# Altium schematic symbol library FPGA_Lattice.SchLib: 24 symbols (part 3 of 3)
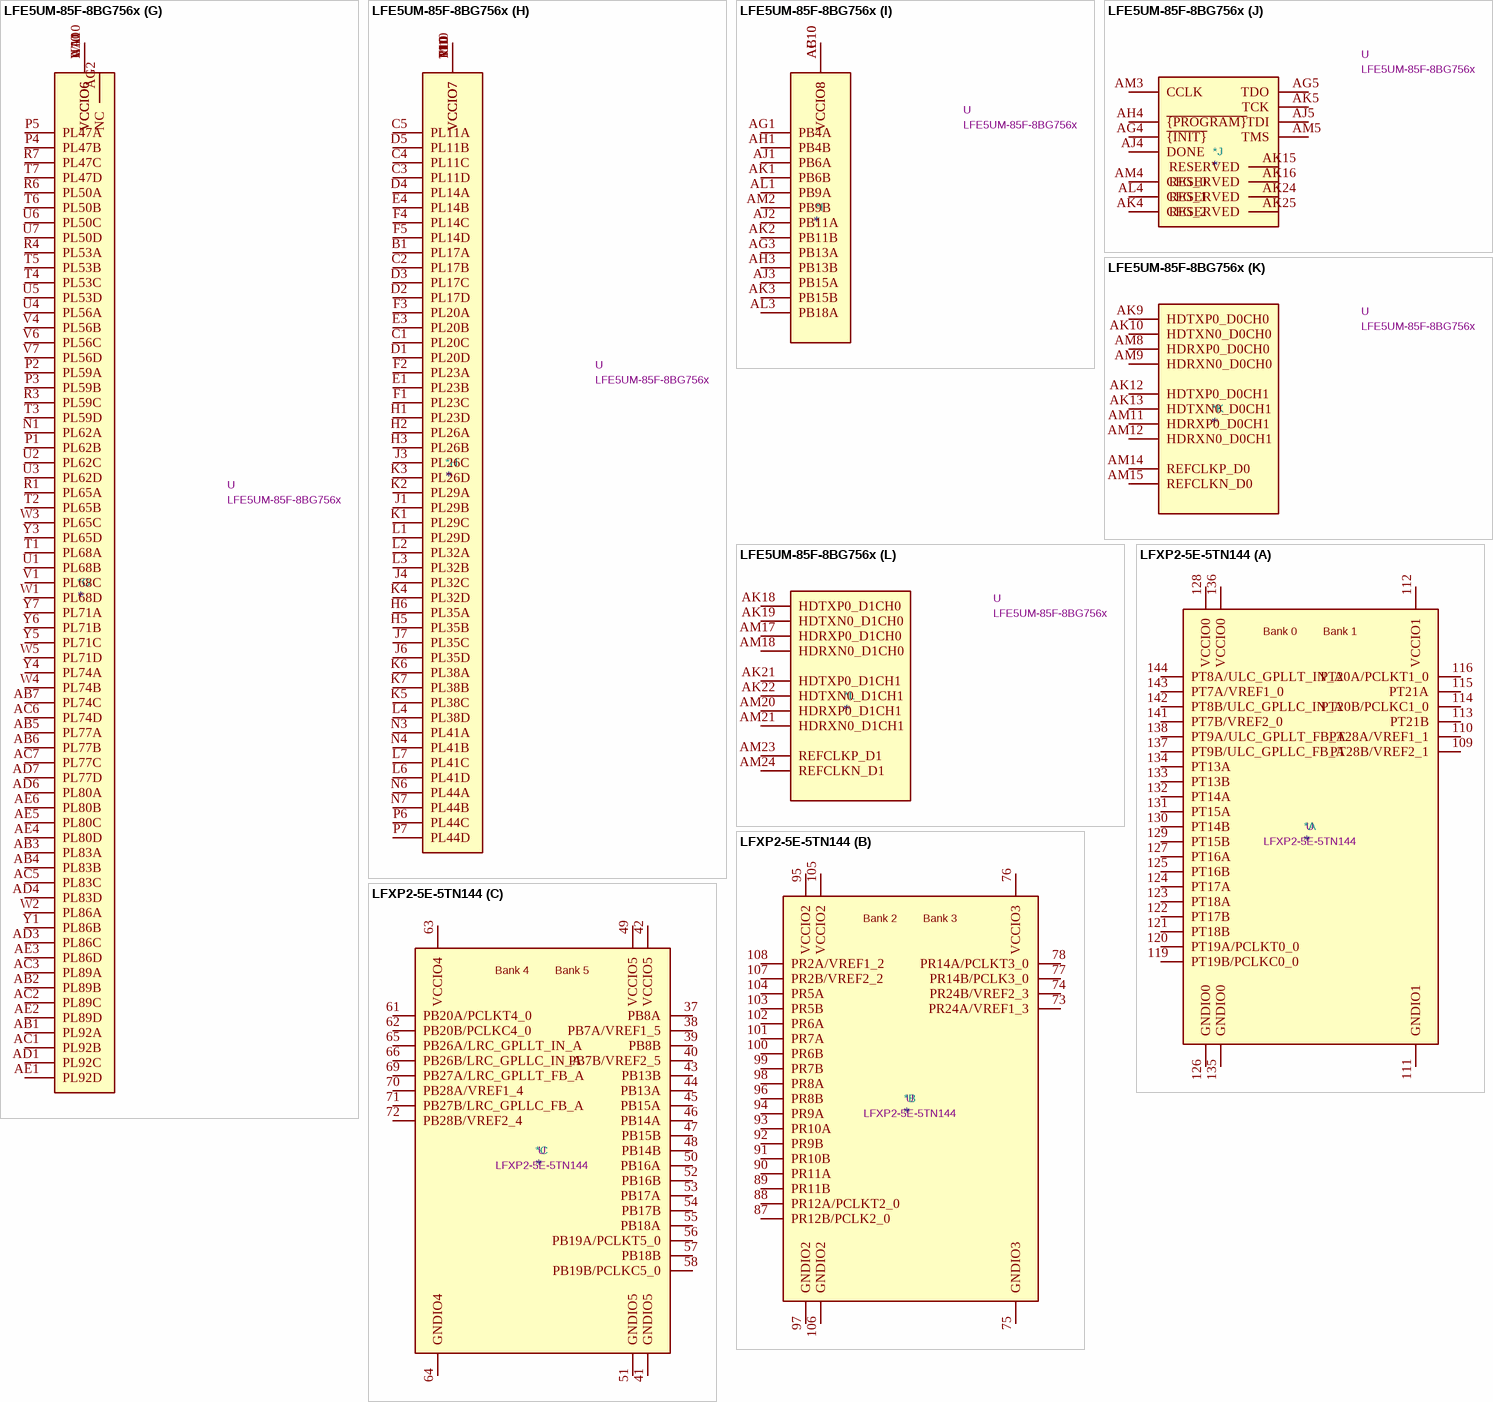
[diagram p26: symbols LFE5UM-85F-8BG756x to LFXP2-5E-5TN144]

## LFE5UM-85F-8BG756x
designator *  value LFE5UM-85F-8BG756x  Reference: U
ECP5 FPGA, 84K LUTs, 1.2V, 3.2Gbps SERDES, BGA-756; ki_keywords: FPGA programmable logic; ki_fp_filters: Lattice*caBGA*27x27mm*Layout32x32*P0.8mm*; Footprint: Package_BGA:Lattice_caBGA-756_27x27mm_Layout32x32_P0.8mm; Datasheet: https://www.latticesemi.com/view_document?document_id=50461; Description_: ECP5 FPGA, 84K LUTs, 1.2V, 3.2Gbps SERDES, BGA-756
part A pins: AA11 GND, AA12 VCC, AA13 VCC, AA14 VCC, AA15 VCC, AA16 VCC, AA17 VCC, AA18 VCC, AA19 VCC, AA20 VCC, AA21 VCC, AA22 GND, AB11 GND, AB12 GND, AB13 GND, AB14 GND, AB15 GND, AB16 GND, AB17 GND, AB18 GND, AB19 GND, AB20 GND, AB21 GND, AB22 GND, AC11 VCCAUX, AC12 GND, AC13 VCCHTX0_D0CH0, AC14 VCCHRX0_D0CH0, AC15 VCCHRX1_D0CH1, AC16 VCCHTX1_D0CH1, AC17 VCCHTX0_D1CH0, AC18 VCCHRX0_D1CH0, AC19 VCCHRX1_D1CH1, AC20 VCCHTX1_D1CH1, AC21 GND, AC22 VCCAUX, AC29 NC, AD2 GND, AD5 GND, AD28 GND, AD31 GND, AE7 NC, AE26 NC, AF11 GND, AF12 GND, AF14 GND, AF15 GND, AF16 GND, AF17 GND, AF19 GND, AF20 GND, AF22 VCCA1, AF23 GND, AG9 VCCA0, AG11 GND, AG12 VCCA0, AG14 GND, AG15 GND, AG16 GND, AG17 GND, AG19 VCCA1, AG20 GND, AG22 VCCA1, AG23 GND, AG24 NC, AG31 NC, AH2 GND, AH5 GND, AH7 GND, AH8 GND, AH9 VCCA0, AH11 GND, AH12 VCCA0, AH14 GND, AH15 GND, AH16 GND, AH17 GND, AH19 VCCA1, AH20 GND, AH22 VCCA1, AH23 GND, AH24 GND, AH25 GND, AH26 GND, AH29 GND, AH31 GND, AJ7 GND, AJ8 GND, AJ9 VCCA0, AJ10 VCCA0, AJ11 GND, AJ12 VCCA0, AJ13 VCCA0, AJ14 GND, AJ15 VCCAUXA0, AJ16 VCCAUXA0, AJ17 GND, AJ18 VCCA1, AJ19 VCCA1, AJ20 GND, AJ21 VCCA1, AJ22 VCCA1, AJ23 GND, AJ24 VCCAUXA1, AJ25 VCCAUXA1, AJ26 GND, AK7 GND, AK8 GND, AK11 GND, AK14 GND, AK17 GND, AK20 GND, AK23 GND, AK26 GND, AL2 GND, AL5 GND, AL7 GND, AL8 GND, AL9 GND, AL11 GND, AL12 GND, AL14 GND, AL15 GND, AL17 GND, AL18 GND, AL20 GND, AL21 GND, AL23 GND, AL24 GND, AL26 GND, AL29 GND, AL31 GND, AM7 GND, AM26 GND, B2 GND, B5 GND, B9 GND, B13 GND, B15 GND, B18 GND, B20 GND, B24 GND, B28 GND, B31 GND, E2 GND, E5 GND, E7 NC, E9 GND, E13 GND, E15 GND, E18 GND, E20 GND, E24 GND, E26 NC, E28 GND, E31 GND, G9 NC, G10 NC, G11 NC, G14 NC, G15 NC, G16 NC, G17 NC, G18 NC, G19 NC, G22 NC, G23 NC, G24 NC, H29 NC, J2 GND, J5 GND, J28 GND, J31 GND, K10 GND, K11 GND, K13 VCCAUX, K20 VCCAUX, K22 GND, K23 GND, L10 GND, L11 GND, L12 GND, L13 GND, L14 GND, L15 GND, L16 GND, L17 GND, L18 GND, L19 GND, L20 GND, L21 GND, L22 GND, L23 GND, L28 NC, M11 GND, M12 VCC, M13 VCC, M14 VCC, M15 VCC, M16 VCC, M17 VCC, M18 VCC, M19 VCC, M20 VCC, M21 VCC, M22 GND, N2 GND, N5 GND, N10 VCCAUX, N11 GND, N12 VCC, N13 GND, N14 GND, N15 GND, N16 GND, N17 GND, N18 GND, N19 GND, N20 GND, N21 VCC, N22 GND, N23 VCCAUX, N28 GND, N31 GND, P11 GND, P12 VCC, P13 GND, P14 GND, P15 GND, P16 GND, P17 GND, P18 GND, P19 GND, P20 GND, P21 VCC, P22 GND, R2 GND, R5 GND, R11 GND, R12 VCC, R13 GND, R14 GND, R15 GND, R16 GND, R17 GND, R18 GND, R19 GND, R20 GND, R21 VCC, R22 GND, R28 GND, R31 GND, T11 GND, T12 VCC, T13 GND, T14 GND, T15 GND, T16 GND, T17 GND, T18 GND, T19 GND, T20 GND, T21 VCC, T22 GND, U11 GND, U12 VCC, U13 GND, U14 GND, U15 GND, U16 GND, U17 GND, U18 GND, U19 GND, U20 GND, U21 VCC, U22 GND, V2 GND, V5 GND, V11 GND, V12 VCC, V13 GND, V14 GND, V15 GND, V16 GND, V17 GND, V18 GND, V19 GND, V20 GND, V21 VCC, V22 GND, V28 GND, V30 NC, V31 GND, W11 GND, W12 VCC, W13 GND, W14 GND, W15 GND, W16 GND, W17 GND, W18 GND, W19 GND, W20 GND, W21 VCC, W22 GND, W27 NC, Y2 GND, Y10 VCCAUX, Y11 GND, Y12 VCC, Y13 GND, Y14 GND, Y15 GND, Y16 GND, Y17 GND, Y18 GND, Y19 GND, Y20 GND, Y21 VCC, Y22 GND, Y23 VCCAUX, Y31 GND
part B pins: A2 PT6A, A3 PT6B, A4 PT9A, A5 PT9B, A7 PT13B, A8 PT20B, A9 PT24B, A10 PT31B, A11 PT38B, A13 PT42B, A14 PT49B, A15 PT54B, A16 PT60B, A17 PT63A, B3 PT4A, B4 PT4B, B7 PT13A, B8 PT20A, B10 PT31A, B11 PT38A, B14 PT49A, B16 PT60A, B17 PT63B, C7 PT11B, C8 PT18B, C9 PT24A, C10 PT29B, C11 PT36B, C13 PT42A, C14 PT47B, C15 PT54A, C16 PT58B, C17 PT65A, D7 PT11A, D8 PT18A, D9 PT22B, D10 PT29A, D11 PT36A, D13 PT40B, D14 PT47A, D15 PT51B, D16 PT58A, D17 PT65B, E8 PT15B, E10 PT27B, E11 PT33B, E14 PT45B, E16 PT56B, F8 PT15A, F9 PT22A, F10 PT27A, F11 PT33A, F13 PT40A, F14 PT45A, F15 PT51A, F16 PT56A, K12 VCCIO0, K14 VCCIO0, K15 VCCIO0, K16 VCCIO0, W6 NC
part C pins: A18 PT71A, A19 PT76A, A20 PT83A, A22 PT87A, A23 PT94A, A24 PT101A, A25 PT105A, A26 PT112A, A28 PT116A, A29 PT116B, A30 PT119A, A31 PT119B, B19 PT76B, B22 PT87B, B23 PT94B, B25 PT105B, B26 PT112B, B29 PT121A, B30 PT121B, C18 PT71B, C19 PT78A, C20 PT83B, C22 PT89A, C23 PT96A, C24 PT101B, C25 PT107A, C26 PT114A, D18 PT74A, D19 PT78B, D20 PT85A, D22 PT89B, D23 PT96B, D24 PT103A, D25 PT107B, D26 PT114B, E17 PT69A, E19 PT80A, E22 PT92A, E23 PT98A, E25 PT110A, F17 PT69B, F18 PT74B, F19 PT80B, F20 PT85B, F22 PT92B, F23 PT98B, F24 PT103B, F25 PT110B, K17 VCCIO1, K18 VCCIO1, K19 VCCIO1, K21 VCCIO1, L5 NC
part D pins: B32 PR17A, C28 PR11A, C29 PR11C, C30 PR11D, C31 PR17B, C32 PR20C, D28 PR11B, D29 PR14A, D30 PR17C, D31 PR17D, D32 PR20D, E29 PR14B, E30 PR20B, E32 PR23B, F28 PR14D, F29 PR14C, F30 PR20A, F31 PR23A, F32 PR23C, H4 NC, H27 PR35A, H28 PR35B, H30 PR26B, H31 PR26A, H32 PR23D, J26 PR35C, J27 PR35D, J29 PR32C, J30 PR26C, J32 PR29B, K26 PR38B, K27 PR38A, K28 PR38C, K29 PR32D, K30 PR26D, K31 PR29A, K32 PR29C, L26 PR41C, L27 PR41D, L29 PR38D, L30 PR32B, L31 PR32A, L32 PR29D, M23 VCCIO2, N26 PR44B, N27 PR44A, N29 PR41B, N30 PR41A, P23 VCCIO2, P26 PR44D, P27 PR44C, R23 VCCIO2, T23 VCCIO2
part E pins: AA23 VCCIO3, AB26 PR74C, AB27 PR77B, AB28 PR77A, AB29 PR83B, AB30 PR83A, AB31 PR89B, AB32 PR92A, AC4 NC, AC26 PR77C, AC27 PR74D, AC28 PR83C, AC30 PR89A, AC31 PR89C, AC32 PR92B, AD26 PR77D, AD27 PR80A, AD29 PR83D, AD30 PR86C, AD32 PR92C, AE27 PR80B, AE28 PR80C, AE29 PR80D, AE30 PR86D, AE31 PR89D, AE32 PR92D, N32 PR62A, P28 PR47A, P29 PR47B, P30 PR59B, P31 PR59A, P32 PR62B, R26 PR47C, R27 PR50A, R29 PR53A, R30 PR59C, R32 PR65A, T26 PR47D, T27 PR50B, T28 PR53B, T29 PR53C, T30 PR59D, T31 PR65B, T32 PR68A, U23 VCCIO3, U26 PR50D, U27 PR50C, U28 PR53D, U29 PR56A, U30 PR62D, U31 PR62C, U32 PR68B, V23 VCCIO3, V26 PR56D, V27 PR56C, V29 PR56B, V32 PR68C, W23 VCCIO3, W28 PR71D, W29 PR74B, W30 PR65C, W31 PR86A, W32 PR68D, Y26 PR71A, Y27 PR71B, Y28 PR71C, Y29 PR74A, Y30 PR65D, Y32 PR86B
part F pins: AB23 VCCIO4, AC23 VCCIO4, AG28 PB110A, AG29 PB110B, AG30 PB114B, AG32 PB119B, AH28 PB112B, AH30 PB114A, AH32 PB119A, AJ28 PB112A, AJ29 PB121A, AJ30 PB121B, AJ31 PB105B, AJ32 PB101B, AK28 PB98B, AK29 PB116A, AK30 PB116B, AK31 PB105A, AK32 PB101A, AL28 PB98A, AL30 PB103B, AL32 PB107B, AM28 PB96A, AM29 PB96B, AM30 PB103A, AM31 PB107A, V3 NC
part G pins: AA10 VCCIO6, AB1 PL92A, AB2 PL89B, AB3 PL83A, AB4 PL83B, AB5 PL77A, AB6 PL77B, AB7 PL74C, AC1 PL92B, AC2 PL89C, AC3 PL89A, AC5 PL83C, AC6 PL74D, AC7 PL77C, AD1 PL92C, AD3 PL86C, AD4 PL83D, AD6 PL80A, AD7 PL77D, AE1 PL92D, AE2 PL89D, AE3 PL86D, AE4 PL80D, AE5 PL80C, AE6 PL80B, AG2 NC, N1 PL62A, P1 PL62B, P2 PL59A, P3 PL59B, P4 PL47B, P5 PL47A, R1 PL65A, R3 PL59C, R4 PL53A, R6 PL50A, R7 PL47C, T1 PL68A, T2 PL65B, T3 PL59D, T4 PL53C, T5 PL53B, T6 PL50B, T7 PL47D, U1 PL68B, U2 PL62C, U3 PL62D, U4 PL56A, U5 PL53D, U6 PL50C, U7 PL50D, U10 VCCIO6, V1 PL68C, V4 PL56B, V6 PL56C, V7 PL56D, V10 VCCIO6, W1 PL68D, W2 PL86A, W3 PL65C, W4 PL74B, W5 PL71D, W10 VCCIO6, Y1 PL86B, Y3 PL65D, Y4 PL74A, Y5 PL71C, Y6 PL71B, Y7 PL71A
part H pins: B1 PL17A, C1 PL20C, C2 PL17B, C3 PL11D, C4 PL11C, C5 PL11A, D1 PL20D, D2 PL17D, D3 PL17C, D4 PL14A, D5 PL11B, E1 PL23B, E3 PL20B, E4 PL14B, F1 PL23C, F2 PL23A, F3 PL20A, F4 PL14C, F5 PL14D, H1 PL23D, H2 PL26A, H3 PL26B, H5 PL35B, H6 PL35A, J1 PL29B, J3 PL26C, J4 PL32C, J6 PL35D, J7 PL35C, K1 PL29C, K2 PL29A, K3 PL26D, K4 PL32D, K5 PL38C, K6 PL38A, K7 PL38B, L1 PL29D, L2 PL32A, L3 PL32B, L4 PL38D, L6 PL41D, L7 PL41C, M10 VCCIO7, N3 PL41A, N4 PL41B, N6 PL44A, N7 PL44B, P6 PL44C, P7 PL44D, P10 VCCIO7, R10 VCCIO7, T10 VCCIO7
part I pins: AB10 VCCIO8, AC10 VCCIO8, AG1 PB4A, AG3 PB13A, AH1 PB4B, AH3 PB13B, AJ1 PB6A, AJ2 PB11A, AJ3 PB15A, AK1 PB6B, AK2 PB11B, AK3 PB15B, AL1 PB9A, AL3 PB18A, AM2 PB9B
part J pins: AG4 ~{{INIT}}, AG5 TDO, AH4 ~{{PROGRAM}}, AJ4 DONE, AJ5 TDI, AK4 CFG_2, AK5 TCK, AK15 RESERVED, AK16 RESERVED, AK24 RESERVED, AK25 RESERVED, AL4 CFG_1, AM3 CCLK, AM4 CFG_0, AM5 TMS
part K pins: AK9 HDTXP0_D0CH0, AK10 HDTXN0_D0CH0, AK12 HDTXP0_D0CH1, AK13 HDTXN0_D0CH1, AM8 HDRXP0_D0CH0, AM9 HDRXN0_D0CH0, AM11 HDRXP0_D0CH1, AM12 HDRXN0_D0CH1, AM14 REFCLKP_D0, AM15 REFCLKN_D0
part L pins: AK18 HDTXP0_D1CH0, AK19 HDTXN0_D1CH0, AK21 HDTXP0_D1CH1, AK22 HDTXN0_D1CH1, AM17 HDRXP0_D1CH0, AM18 HDRXN0_D1CH0, AM20 HDRXP0_D1CH1, AM21 HDRXN0_D1CH1, AM23 REFCLKP_D1, AM24 REFCLKN_D1

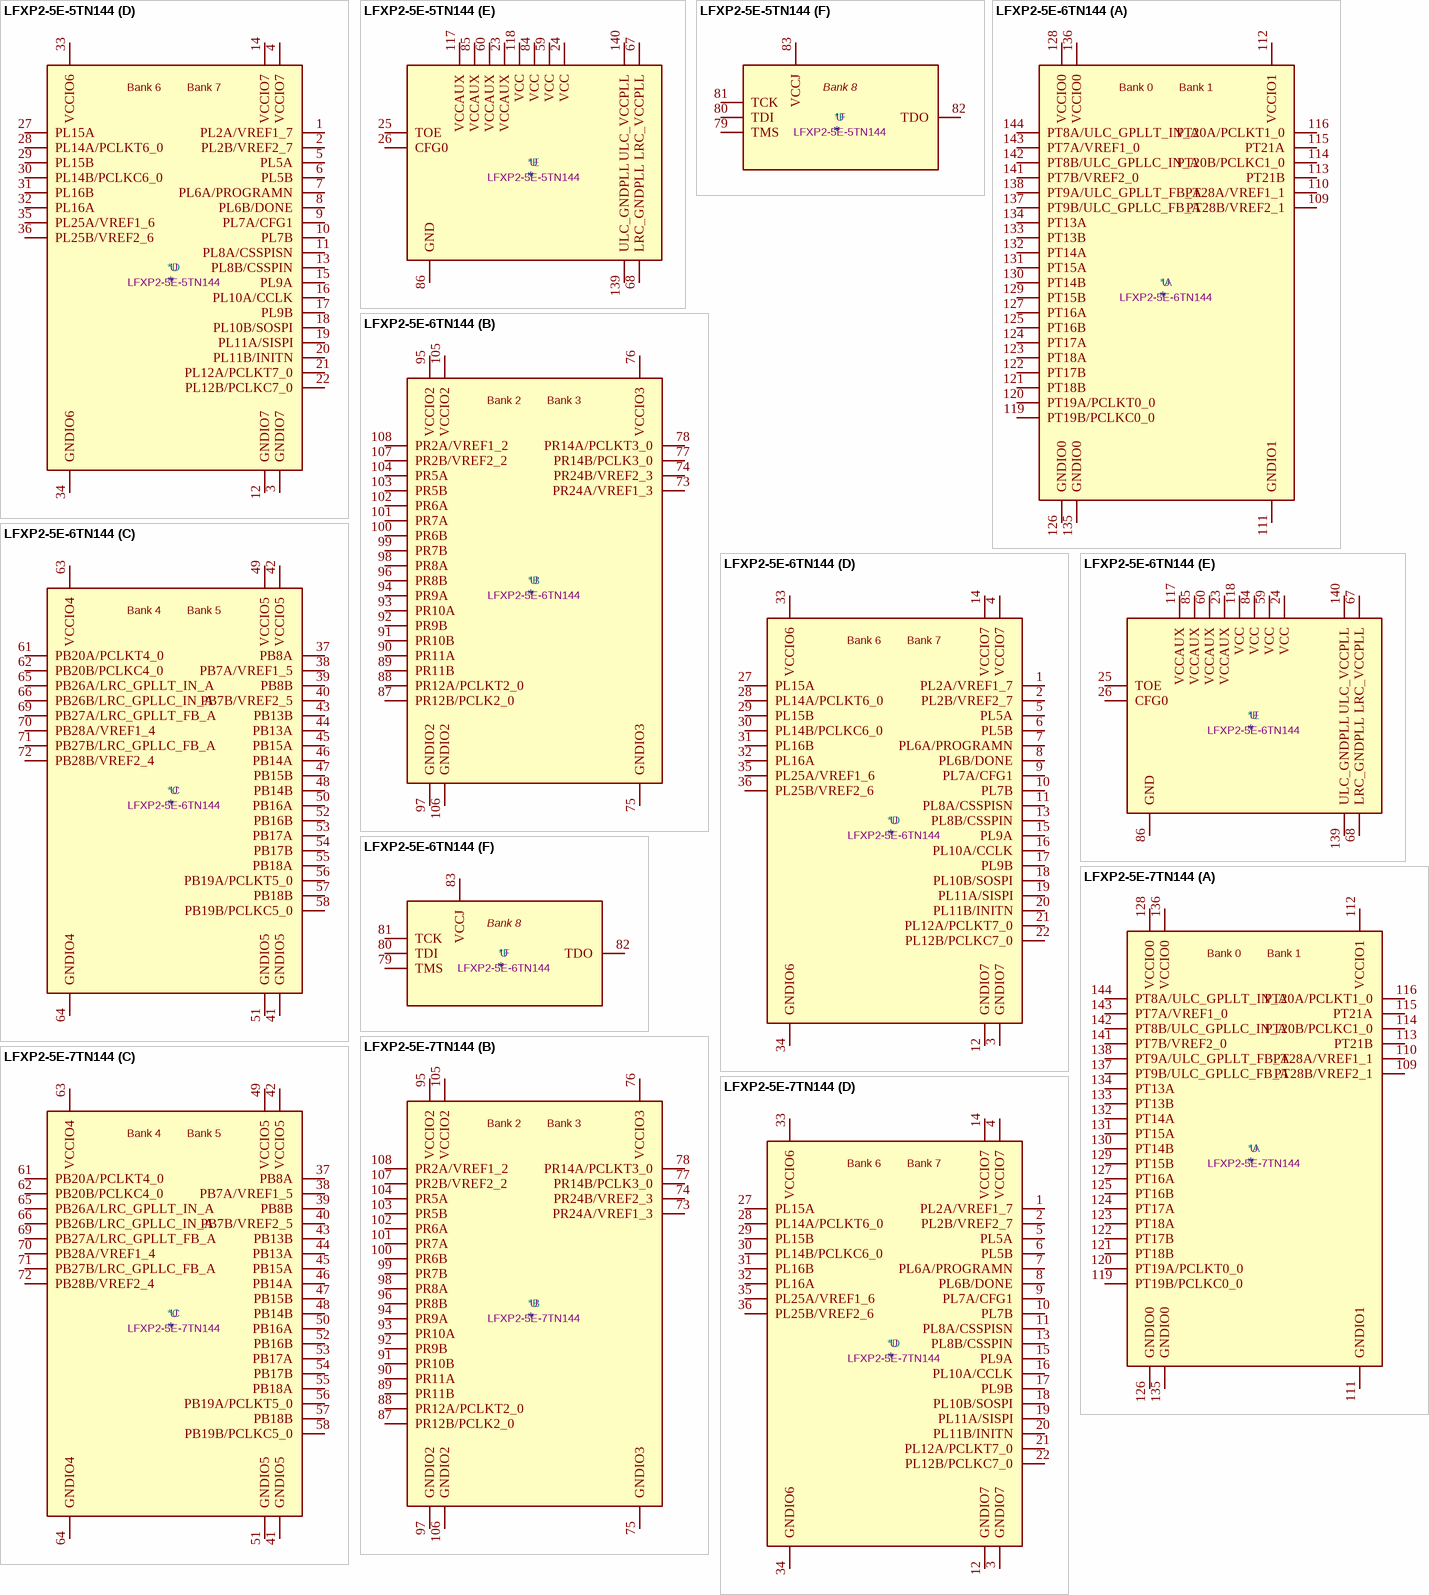
[diagram p23: symbols LFXP2-5E-5TN144 to LFXP2-5E-7TN144]

## LFXP2-5E-5TN144
designator *  value LFXP2-5E-5TN144  Reference: U
FPGA, 5000 LUTs, 1.2V, TQFP-144; ki_keywords: FPGA Lattice XP2; ki_fp_filters: TQFP*20x20mm*; Footprint: Package_QFP:TQFP-144_20x20mm_P0.5mm; Datasheet: http://www.latticesemi.com/view_document?document_id=24635; Description_: FPGA, 5000 LUTs, 1.2V, TQFP-144
part A pins: 109 PT28B/VREF2_1, 110 PT28A/VREF1_1, 111 GNDIO1, 112 VCCIO1, 113 PT21B, 114 PT20B/PCLKC1_0, 115 PT21A, 116 PT20A/PCLKT1_0, 119 PT19B/PCLKC0_0, 120 PT19A/PCLKT0_0, 121 PT18B, 122 PT17B, 123 PT18A, 124 PT17A, 125 PT16B, 126 GNDIO0, 127 PT16A, 128 VCCIO0, 129 PT15B, 130 PT14B, 131 PT15A, 132 PT14A, 133 PT13B, 134 PT13A, 135 GNDIO0, 136 VCCIO0, 137 PT9B/ULC_GPLLC_FB_A, 138 PT9A/ULC_GPLLT_FB_A, 141 PT7B/VREF2_0, 142 PT8B/ULC_GPLLC_IN_A, 143 PT7A/VREF1_0, 144 PT8A/ULC_GPLLT_IN_A
part B pins: 73 PR24A/VREF1_3, 74 PR24B/VREF2_3, 75 GNDIO3, 76 VCCIO3, 77 PR14B/PCLK3_0, 78 PR14A/PCLKT3_0, 87 PR12B/PCLK2_0, 88 PR12A/PCLKT2_0, 89 PR11B, 90 PR11A, 91 PR10B, 92 PR9B, 93 PR10A, 94 PR9A, 95 VCCIO2, 96 PR8B, 97 GNDIO2, 98 PR8A, 99 PR7B, 100 PR6B, 101 PR7A, 102 PR6A, 103 PR5B, 104 PR5A, 105 VCCIO2, 106 GNDIO2, 107 PR2B/VREF2_2, 108 PR2A/VREF1_2
part C pins: 37 PB8A, 38 PB7A/VREF1_5, 39 PB8B, 40 PB7B/VREF2_5, 41 GNDIO5, 42 VCCIO5, 43 PB13B, 44 PB13A, 45 PB15A, 46 PB14A, 47 PB15B, 48 PB14B, 49 VCCIO5, 50 PB16A, 51 GNDIO5, 52 PB16B, 53 PB17A, 54 PB17B, 55 PB18A, 56 PB19A/PCLKT5_0, 57 PB18B, 58 PB19B/PCLKC5_0, 61 PB20A/PCLKT4_0, 62 PB20B/PCLKC4_0, 63 VCCIO4, 64 GNDIO4, 65 PB26A/LRC_GPLLT_IN_A, 66 PB26B/LRC_GPLLC_IN_A, 69 PB27A/LRC_GPLLT_FB_A, 70 PB28A/VREF1_4, 71 PB27B/LRC_GPLLC_FB_A, 72 PB28B/VREF2_4
part D pins: 1 PL2A/VREF1_7, 2 PL2B/VREF2_7, 3 GNDIO7, 4 VCCIO7, 5 PL5A, 6 PL5B, 7 PL6A/PROGRAMN, 8 PL6B/DONE, 9 PL7A/CFG1, 10 PL7B, 11 PL8A/CSSPISN, 12 GNDIO7, 13 PL8B/CSSPIN, 14 VCCIO7, 15 PL9A, 16 PL10A/CCLK, 17 PL9B, 18 PL10B/SOSPI, 19 PL11A/SISPI, 20 PL11B/INITN, 21 PL12A/PCLKT7_0, 22 PL12B/PCLKC7_0, 27 PL15A, 28 PL14A/PCLKT6_0, 29 PL15B, 30 PL14B/PCLKC6_0, 31 PL16B, 32 PL16A, 33 VCCIO6, 34 GNDIO6, 35 PL25A/VREF1_6, 36 PL25B/VREF2_6
part E pins: 23 VCCAUX, 24 VCC, 25 TOE, 26 CFG0, 59 VCC, 60 VCCAUX, 67 LRC_VCCPLL, 68 LRC_GNDPLL, 84 VCC, 85 VCCAUX, 86 GND, 117 VCCAUX, 118 VCC, 139 ULC_GNDPLL, 140 ULC_VCCPLL
part F pins: 79 TMS, 80 TDI, 81 TCK, 82 TDO, 83 VCCJ
part A text: Bank 0; Bank 1
part B text: Bank 2; Bank 3
part C text: Bank 4; Bank 5
part D text: Bank 6; Bank 7
part F text: Bank 8

## LFXP2-5E-6TN144
designator *  value LFXP2-5E-6TN144  Reference: U
FPGA, 5000 LUTs, 1.2V, TQFP-144; ki_keywords: FPGA Lattice XP2; ki_fp_filters: TQFP*20x20mm*; Footprint: Package_QFP:TQFP-144_20x20mm_P0.5mm; Datasheet: http://www.latticesemi.com/view_document?document_id=24635; Description_: FPGA, 5000 LUTs, 1.2V, TQFP-144
part A pins: 109 PT28B/VREF2_1, 110 PT28A/VREF1_1, 111 GNDIO1, 112 VCCIO1, 113 PT21B, 114 PT20B/PCLKC1_0, 115 PT21A, 116 PT20A/PCLKT1_0, 119 PT19B/PCLKC0_0, 120 PT19A/PCLKT0_0, 121 PT18B, 122 PT17B, 123 PT18A, 124 PT17A, 125 PT16B, 126 GNDIO0, 127 PT16A, 128 VCCIO0, 129 PT15B, 130 PT14B, 131 PT15A, 132 PT14A, 133 PT13B, 134 PT13A, 135 GNDIO0, 136 VCCIO0, 137 PT9B/ULC_GPLLC_FB_A, 138 PT9A/ULC_GPLLT_FB_A, 141 PT7B/VREF2_0, 142 PT8B/ULC_GPLLC_IN_A, 143 PT7A/VREF1_0, 144 PT8A/ULC_GPLLT_IN_A
part B pins: 73 PR24A/VREF1_3, 74 PR24B/VREF2_3, 75 GNDIO3, 76 VCCIO3, 77 PR14B/PCLK3_0, 78 PR14A/PCLKT3_0, 87 PR12B/PCLK2_0, 88 PR12A/PCLKT2_0, 89 PR11B, 90 PR11A, 91 PR10B, 92 PR9B, 93 PR10A, 94 PR9A, 95 VCCIO2, 96 PR8B, 97 GNDIO2, 98 PR8A, 99 PR7B, 100 PR6B, 101 PR7A, 102 PR6A, 103 PR5B, 104 PR5A, 105 VCCIO2, 106 GNDIO2, 107 PR2B/VREF2_2, 108 PR2A/VREF1_2
part C pins: 37 PB8A, 38 PB7A/VREF1_5, 39 PB8B, 40 PB7B/VREF2_5, 41 GNDIO5, 42 VCCIO5, 43 PB13B, 44 PB13A, 45 PB15A, 46 PB14A, 47 PB15B, 48 PB14B, 49 VCCIO5, 50 PB16A, 51 GNDIO5, 52 PB16B, 53 PB17A, 54 PB17B, 55 PB18A, 56 PB19A/PCLKT5_0, 57 PB18B, 58 PB19B/PCLKC5_0, 61 PB20A/PCLKT4_0, 62 PB20B/PCLKC4_0, 63 VCCIO4, 64 GNDIO4, 65 PB26A/LRC_GPLLT_IN_A, 66 PB26B/LRC_GPLLC_IN_A, 69 PB27A/LRC_GPLLT_FB_A, 70 PB28A/VREF1_4, 71 PB27B/LRC_GPLLC_FB_A, 72 PB28B/VREF2_4
part D pins: 1 PL2A/VREF1_7, 2 PL2B/VREF2_7, 3 GNDIO7, 4 VCCIO7, 5 PL5A, 6 PL5B, 7 PL6A/PROGRAMN, 8 PL6B/DONE, 9 PL7A/CFG1, 10 PL7B, 11 PL8A/CSSPISN, 12 GNDIO7, 13 PL8B/CSSPIN, 14 VCCIO7, 15 PL9A, 16 PL10A/CCLK, 17 PL9B, 18 PL10B/SOSPI, 19 PL11A/SISPI, 20 PL11B/INITN, 21 PL12A/PCLKT7_0, 22 PL12B/PCLKC7_0, 27 PL15A, 28 PL14A/PCLKT6_0, 29 PL15B, 30 PL14B/PCLKC6_0, 31 PL16B, 32 PL16A, 33 VCCIO6, 34 GNDIO6, 35 PL25A/VREF1_6, 36 PL25B/VREF2_6
part E pins: 23 VCCAUX, 24 VCC, 25 TOE, 26 CFG0, 59 VCC, 60 VCCAUX, 67 LRC_VCCPLL, 68 LRC_GNDPLL, 84 VCC, 85 VCCAUX, 86 GND, 117 VCCAUX, 118 VCC, 139 ULC_GNDPLL, 140 ULC_VCCPLL
part F pins: 79 TMS, 80 TDI, 81 TCK, 82 TDO, 83 VCCJ
part A text: Bank 0; Bank 1
part B text: Bank 2; Bank 3
part C text: Bank 4; Bank 5
part D text: Bank 6; Bank 7
part F text: Bank 8

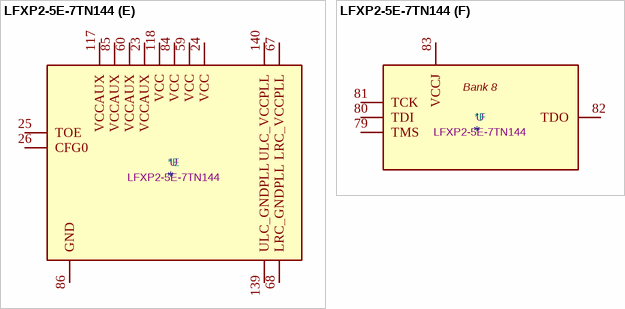
[diagram p24: symbol LFXP2-5E-7TN144]

## LFXP2-5E-7TN144
designator *  value LFXP2-5E-7TN144  Reference: U
FPGA, 5000 LUTs, 1.2V, TQFP-144; ki_keywords: FPGA Lattice XP2; ki_fp_filters: TQFP*20x20mm*; Footprint: Package_QFP:TQFP-144_20x20mm_P0.5mm; Datasheet: http://www.latticesemi.com/view_document?document_id=24635; Description_: FPGA, 5000 LUTs, 1.2V, TQFP-144
part A pins: 109 PT28B/VREF2_1, 110 PT28A/VREF1_1, 111 GNDIO1, 112 VCCIO1, 113 PT21B, 114 PT20B/PCLKC1_0, 115 PT21A, 116 PT20A/PCLKT1_0, 119 PT19B/PCLKC0_0, 120 PT19A/PCLKT0_0, 121 PT18B, 122 PT17B, 123 PT18A, 124 PT17A, 125 PT16B, 126 GNDIO0, 127 PT16A, 128 VCCIO0, 129 PT15B, 130 PT14B, 131 PT15A, 132 PT14A, 133 PT13B, 134 PT13A, 135 GNDIO0, 136 VCCIO0, 137 PT9B/ULC_GPLLC_FB_A, 138 PT9A/ULC_GPLLT_FB_A, 141 PT7B/VREF2_0, 142 PT8B/ULC_GPLLC_IN_A, 143 PT7A/VREF1_0, 144 PT8A/ULC_GPLLT_IN_A
part B pins: 73 PR24A/VREF1_3, 74 PR24B/VREF2_3, 75 GNDIO3, 76 VCCIO3, 77 PR14B/PCLK3_0, 78 PR14A/PCLKT3_0, 87 PR12B/PCLK2_0, 88 PR12A/PCLKT2_0, 89 PR11B, 90 PR11A, 91 PR10B, 92 PR9B, 93 PR10A, 94 PR9A, 95 VCCIO2, 96 PR8B, 97 GNDIO2, 98 PR8A, 99 PR7B, 100 PR6B, 101 PR7A, 102 PR6A, 103 PR5B, 104 PR5A, 105 VCCIO2, 106 GNDIO2, 107 PR2B/VREF2_2, 108 PR2A/VREF1_2
part C pins: 37 PB8A, 38 PB7A/VREF1_5, 39 PB8B, 40 PB7B/VREF2_5, 41 GNDIO5, 42 VCCIO5, 43 PB13B, 44 PB13A, 45 PB15A, 46 PB14A, 47 PB15B, 48 PB14B, 49 VCCIO5, 50 PB16A, 51 GNDIO5, 52 PB16B, 53 PB17A, 54 PB17B, 55 PB18A, 56 PB19A/PCLKT5_0, 57 PB18B, 58 PB19B/PCLKC5_0, 61 PB20A/PCLKT4_0, 62 PB20B/PCLKC4_0, 63 VCCIO4, 64 GNDIO4, 65 PB26A/LRC_GPLLT_IN_A, 66 PB26B/LRC_GPLLC_IN_A, 69 PB27A/LRC_GPLLT_FB_A, 70 PB28A/VREF1_4, 71 PB27B/LRC_GPLLC_FB_A, 72 PB28B/VREF2_4
part D pins: 1 PL2A/VREF1_7, 2 PL2B/VREF2_7, 3 GNDIO7, 4 VCCIO7, 5 PL5A, 6 PL5B, 7 PL6A/PROGRAMN, 8 PL6B/DONE, 9 PL7A/CFG1, 10 PL7B, 11 PL8A/CSSPISN, 12 GNDIO7, 13 PL8B/CSSPIN, 14 VCCIO7, 15 PL9A, 16 PL10A/CCLK, 17 PL9B, 18 PL10B/SOSPI, 19 PL11A/SISPI, 20 PL11B/INITN, 21 PL12A/PCLKT7_0, 22 PL12B/PCLKC7_0, 27 PL15A, 28 PL14A/PCLKT6_0, 29 PL15B, 30 PL14B/PCLKC6_0, 31 PL16B, 32 PL16A, 33 VCCIO6, 34 GNDIO6, 35 PL25A/VREF1_6, 36 PL25B/VREF2_6
part E pins: 23 VCCAUX, 24 VCC, 25 TOE, 26 CFG0, 59 VCC, 60 VCCAUX, 67 LRC_VCCPLL, 68 LRC_GNDPLL, 84 VCC, 85 VCCAUX, 86 GND, 117 VCCAUX, 118 VCC, 139 ULC_GNDPLL, 140 ULC_VCCPLL
part F pins: 79 TMS, 80 TDI, 81 TCK, 82 TDO, 83 VCCJ
part A text: Bank 0; Bank 1
part B text: Bank 2; Bank 3
part C text: Bank 4; Bank 5
part D text: Bank 6; Bank 7
part F text: Bank 8